# EAGLE library part TPS6213X (library SparkFun-PowerIC)
3-17V, 3A Step Down Converter
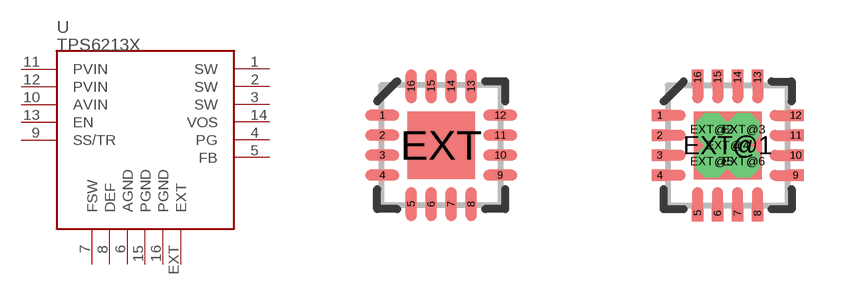
[diagram p39: symbol with the pads of QFN16-3X3MM; footprints QFN16-3X3MM, QFN16-3X3MM_TI]

Designator prefix -

## TPS6213XV1 (PROD_ID: IC-11630)  [QFN16-3X3MM]
1  SW
2  SW
3  SW
4  PG
5  FB
6  AGND
7  FSW
8  DEF
9  SS/TR
10  AVIN
11  PVIN
12  PVIN
13  EN
14  VOS
15  PGND
16  PGND
EXT  EXT

## TPS6213XTI  [QFN16-3X3MM_TI]
1  SW
2  SW
3  SW
4  PG
5  FB
6  AGND
7  FSW
8  DEF
9  SS/TR
10  AVIN
11  PVIN
12  PVIN
13  EN
14  VOS
15  PGND
16  PGND
EXT@1  EXT
EXT@2  EXT
EXT@3  EXT
EXT@4  EXT
EXT@5  EXT
EXT@6  EXT

## Footprint QFN16-3X3MM (pad centres in mm)
3mm x 3mm QFN 16 pin
smd 0.85 x 0.28: 1 -1.475,0.75; 2 -1.475,0.25; 3 -1.475,-0.25; 4 -1.475,-0.75; 9 1.475,-0.75; 10 1.475,-0.25; 11 1.475,0.25; 12 1.475,0.75
smd 0.28 x 0.85: 5 -0.75,-1.475; 6 -0.25,-1.475; 7 0.25,-1.475; 8 0.75,-1.475; 13 0.75,1.475; 14 0.25,1.475; 15 -0.25,1.475; 16 -0.75,1.475
smd 1.68 x 1.68: EXT 0,0

## Footprint QFN16-3X3MM_TI (pad centres in mm)
smd 0.4 x 0.28: 1 -1.7,0.75; 2 -1.7,0.25; 3 -1.7,-0.25; 4 -1.7,-0.75; 9 1.7,-0.75; 10 1.7,-0.25; 11 1.7,0.25; 12 1.7,0.75
smd 0.28 x 0.4: 5 -0.75,-1.7; 6 -0.25,-1.7; 7 0.25,-1.7; 8 0.75,-1.7; 13 0.75,1.7; 14 0.25,1.7; 15 -0.25,1.7; 16 -0.75,1.7
smd 1.7 x 1.7: EXT@1 0,0
drill 0.3 octagon: EXT@2 -0.4,0.4; EXT@3 0.4,0.4; EXT@4 0,0; EXT@5 -0.4,-0.4; EXT@6 0.4,-0.4